# EAGLE library part DIN6_PS2 (library adb)
Mini-DIN7 Connector Through-hole MiniDIN 7 connector. Commonly used with Roomba products. Don't confuse this with DIN-6, which is commonly used on oldschool keyboards and mice. Here is the female version connector we sell at SparkFun: MiniDIN 7-Pin Connector <https://www.sparkfun.com/products/696> (PRT-00696)
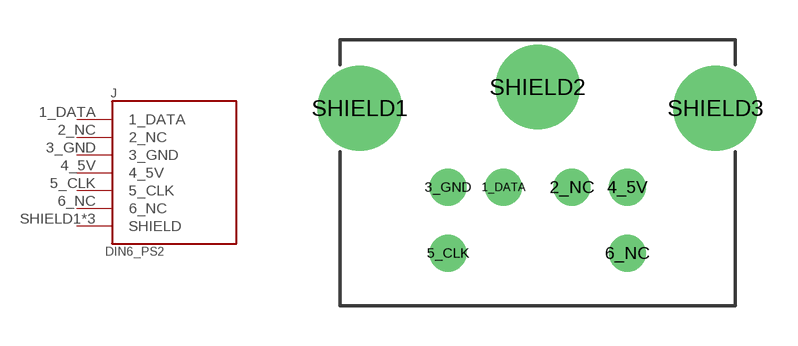
[diagram p0: symbol with the pads of DIN6; footprint DIN6]

Designator prefix J

## DIN6_PS2 (PROD_ID: CONN-08318; SF_ID: PRT-00696)  [DIN6]
1_DATA  1_DATA
2_NC  2_NC
3_GND  3_GND
4_5V  4_5V
5_CLK  5_CLK
6_NC  6_NC
SHIELD1  SHIELD
SHIELD2  SHIELD
SHIELD3  SHIELD

## Footprint DIN6 (pad centres in mm)
miniDIN Right Angle Specifications: Pin count:7 Datasheet referenced for footprint <https://www.sparkfun.com/datasheets/Prototyping/mdn-s-07-x-mkt.pdf> Example device(s): DIN7
drill 0.9: 1_DATA -1.3,-3.8; 2_NC 1.3,-3.8; 3_GND -3.4,-3.8; 4_5V 3.4,-3.8; 5_CLK -3.4,-6.3; 6_NC 3.4,-6.3
drill 2.2: SHIELD1 -6.75,-0.8; SHIELD2 0,0; SHIELD3 6.75,-0.8